# EAGLE library part LTC1380 (library BrownSpaceEngineering)
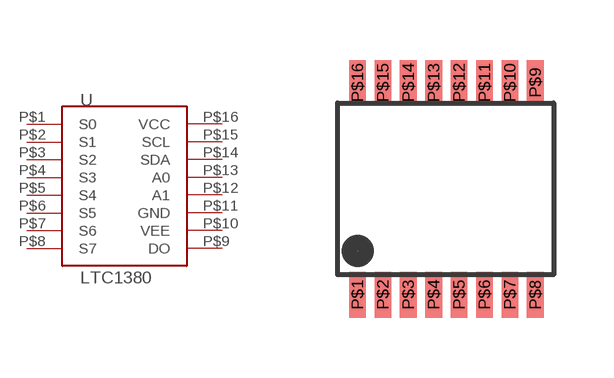
[diagram p18: symbol with the pads of SSOP-16-NARROW; footprint SSOP-16-NARROW]

Designator prefix U

## LTC1380-GN  [SSOP-16-NARROW]
P$1  S0
P$2  S1
P$3  S2
P$4  S3
P$5  S4
P$6  S5
P$7  S6
P$8  S7
P$9  DO
P$10  VEE
P$11  GND
P$12  A1
P$13  A0
P$14  SDA
P$15  SCL
P$16  VCC

## Footprint SSOP-16-NARROW (pad centres in mm)
smd 0.419 x 1.143: P$1 0,0; P$2 0.635,0; P$3 1.27,0; P$4 1.905,0; P$5 2.54,0; P$6 3.175,0; P$7 3.81,0; P$8 4.445,0; P$9 4.445,5.309; P$10 3.81,5.309; P$11 3.175,5.309; P$12 2.54,5.309; P$13 1.905,5.309; P$14 1.27,5.309; P$15 0.635,5.309; P$16 0,5.309